# EAGLE library part PJS008U-3000-0 (library PJS008U-3000-0)
Check availability <https://pricing.snapeda.com/parts/PJS008U-3000-0/Yamaichi/view-part?ref=eda>
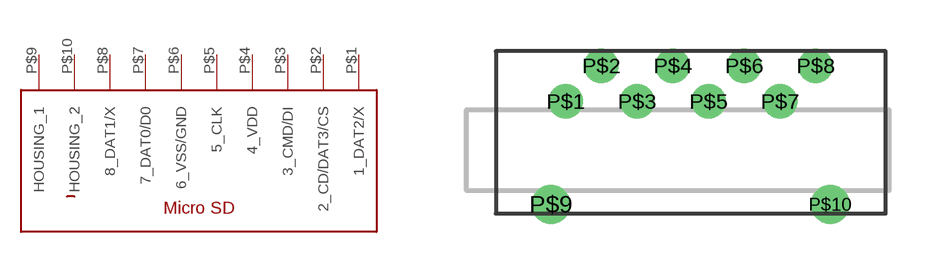
[diagram p0: symbol with the pads of PJS008U-3000-0; footprint PJS008U-3000-0]

Designator prefix -

## PJS008U-3000-0 (Availability: In Stock; Check_prices: https://www.snapeda.com/parts/PJS008U-3000-0/Yamaichi/view-part/?ref=eda; Description: 8 Position Card Connector Secure Digital - microSD™ Through Hole Gold-Nickel; MF: Yamaichi; MP: PJS008U-3000-0; Package: None; Price: None; SnapEDA_Link: https://www.snapeda.com/parts/PJS008U-3000-0/Yamaichi/view-part/?ref=snap)  [PJS008U-3000-0]
P$1  1_DAT2/X
P$2  2_CD/DAT3/CS
P$3  3_CMD/DI
P$4  4_VDD  pwr
P$5  5_CLK
P$6  6_VSS/GND
P$7  7_DAT0/D0
P$8  8_DAT1/X
P$9  HOUSING_1
P$10  HOUSING_2

## Footprint PJS008U-3000-0 (pad centres in mm)
drill 0.55: P$1 -3.45,1.5; P$2 -2.35,2.6; P$3 -1.25,1.5; P$4 -0.15,2.6; P$5 0.95,1.5; P$6 2.05,2.6; P$7 3.15,1.5; P$8 4.25,2.6
drill 0.7: P$9 -3.9,-1.67; P$10 4.7,-1.67